# Altium footprint library SchottkyDiode_RB751S40_2-PIN.PcbLib: 1 footprints
Each footprint in its own frame and in the unit in brackets; x right, y up, seen from the top. Pads: shape width x height; smd on the part's side, far side on the other; paste and mask are expansions set on the pad; w line width, h text height; cw(c..) or ccw(c..) is an arc to the next point about the centre after c.
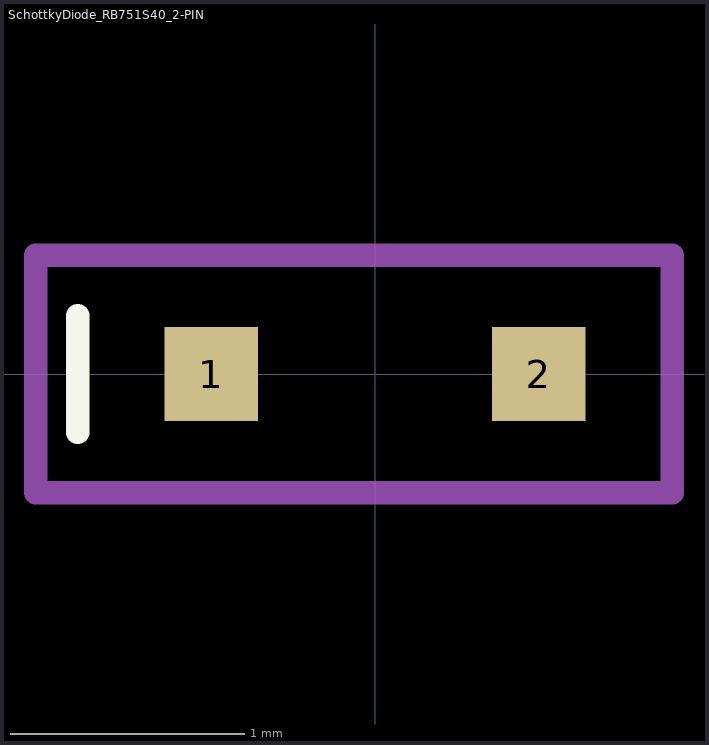
[diagram p0: the footprint, top view; thin cyan lines are the x and y axes]

## SchottkyDiode_RB751S40_2-PIN [mm]
height 0.7
pads (2):
  rect 0.4x0.4 smd: 1(-0.7,0) 2(0.7,0)
Top Overlay:
  lines w0.1: -1.27,-0.25 -1.27,0.25
Mechanical 15:
  lines w0.1: -1.45,-0.508 1.27,-0.508 1.27,0.508 -1.45,0.508 -1.45,-0.508
3D body: height 0.7, standoff 0, extent -0.65,-0.45 0.65,0.45